# Altium footprint library Connectors.PcbLib: 86 footprints (part 2 of 6)
Each footprint in its own frame and in the unit in brackets; x right, y up, seen from the top. Pads: shape width x height; smd on the part's side, far side on the other; paste and mask are expansions set on the pad; w line width, h text height; cw(c..) or ccw(c..) is an arc to the next point about the centre after c.
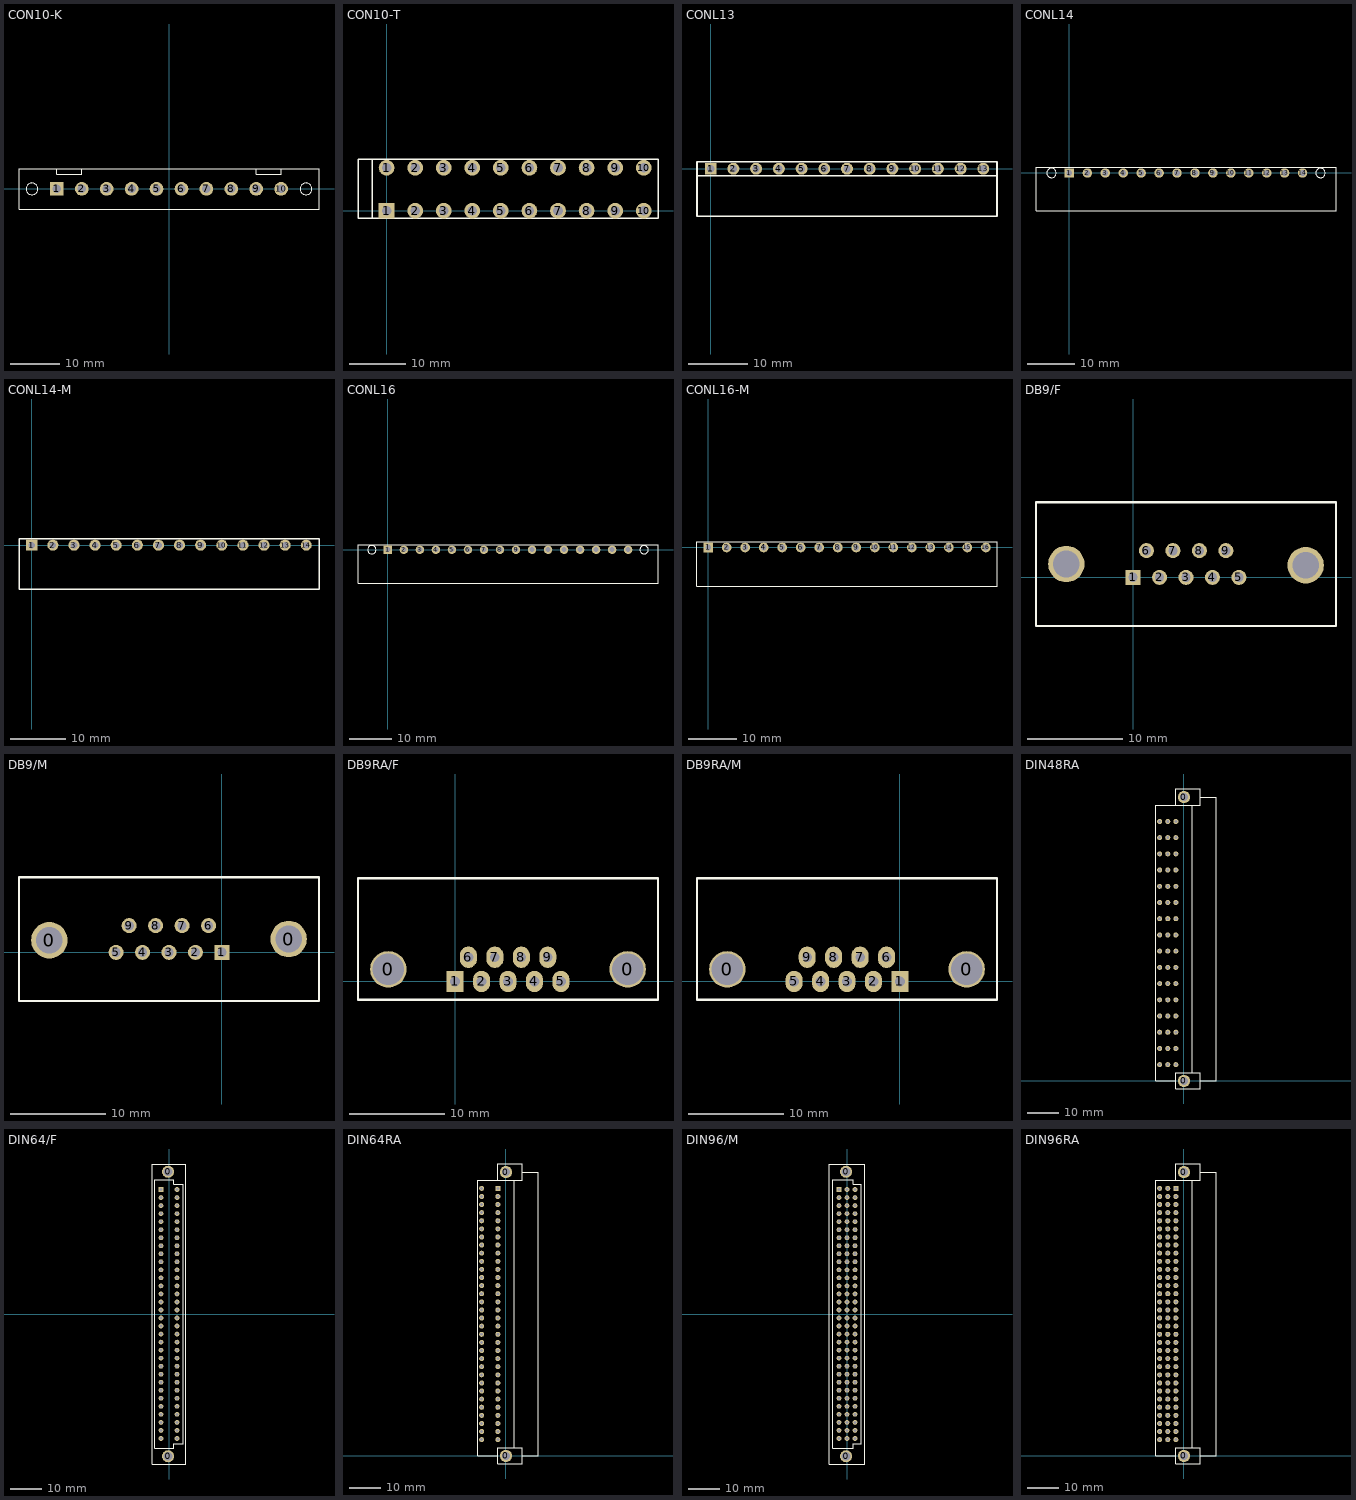
[diagram p1: the footprints below, top view; thin cyan lines are the x and y axes]

## CON10-K [mm] "connector ,2Pin,5.08mm"
pads (10):
  rect 2.8x2.8 hole 1.7: 1(-22.86,0)
  round 2.8 hole 1.7: 2(-17.78,0) 3(-12.7,0) 4(-7.62,0) 5(-2.54,0) 6(2.54,0) 7(7.62,0) 8(12.7,0) 9(17.78,0) 10(22.86,0)
Top Overlay:
  circle w0.254: c27.94,0 r1.2
  circle w0.254: c-27.94,0 r1.2
  lines w0.254: -22.86,4.1 -22.86,3 -17.78,3 -17.78,4.1 ; 17.78,4.1 17.78,3 22.86,3 22.86,4.1 ; -30.58,-4.15 30.58,-4.15 30.58,4.1 -30.58,4.1 -30.58,-4.15

## CON10-T [mm] "connector ,2Pin,5.08mm"
pads (20):
  rect 2.8x2.8 hole 1.7: 1(0,0)
  round 2.8 hole 1.7: 1(0,7.62) 2(5.08,0) 2(5.08,7.62) 3(10.16,0) 3(10.16,7.62) 4(15.24,0) 4(15.24,7.62) 5(20.32,0) 5(20.32,7.62) 6(25.4,0) 6(25.4,7.62) 7(30.48,0) 7(30.48,7.62) 8(35.56,0) 8(35.56,7.62) 9(40.64,0) 9(40.64,7.62) 10(45.72,0) 10(45.72,7.62)
Top Overlay:
  lines w0.254: -2.54,-1.38 -2.54,9.12 ; -5.08,-1.38 -5.08,9.12 48.26,9.12 48.26,-1.38 -5.08,-1.38

## CONL13 [mm] "connector ,8Pin,5.08mm"
pads (13):
  rect 2x2 hole 1.2: 1(0,0)
  round 2 hole 1.2: 2(3.81,0) 3(7.62,0) 4(11.43,0) 5(15.24,0) 6(19.05,0) 7(22.86,0) 8(26.67,0) 9(30.48,0) 10(34.29,0) 11(38.1,0) 12(41.91,0) 13(45.72,0)
Top Overlay:
  lines w0.254: -2.3,-1.2 48.02,-1.2 ; -2.3,-8 -2.3,1.2 48.02,1.2 48.02,-8 -2.3,-8

## CONL14 [mm] "connector ,14Pin,3.81mm"
pads (14):
  rect 2x2 hole 1.2: 1(0,0)
  round 2 hole 1.2: 2(3.81,0) 3(7.62,0) 4(11.43,0) 5(15.24,0) 6(19.05,0) 7(22.86,0) 8(26.67,0) 9(30.48,0) 10(34.29,0) 11(38.1,0) 12(41.91,0) 13(45.72,0) 14(49.53,0)
Top Overlay:
  circle w0.254: c53.34,0 r1
  circle w0.254: c-3.81,0 r1
  lines w0.254: -7.1,-8 56.63,-8 56.63,1.2 -7.1,1.2 -7.1,-8

## CONL14-M [mm] "connector ,14Pin,3.81mm"
pads (14):
  rect 2x2 hole 1.2: 1(0,0)
  round 2 hole 1.2: 2(3.81,0) 3(7.62,0) 4(11.43,0) 5(15.24,0) 6(19.05,0) 7(22.86,0) 8(26.67,0) 9(30.48,0) 10(34.29,0) 11(38.1,0) 12(41.91,0) 13(45.72,0) 14(49.53,0)
Top Overlay:
  lines w0.254: -2.3,-8 -2.3,1.2 51.83,1.2 51.83,-8 -2.3,-8

## CONL16 [mm] "connector ,16Pin,3.81mm"
pads (16):
  rect 2x2 hole 1.2: 1(0,0)
  round 2 hole 1.2: 2(3.81,0) 3(7.62,0) 4(11.43,0) 5(15.24,0) 6(19.05,0) 7(22.86,0) 8(26.67,0) 9(30.48,0) 10(34.29,0) 11(38.1,0) 12(41.91,0) 13(45.72,0) 14(49.53,0) 15(53.34,0) 16(57.15,0)
Top Overlay:
  circle w0.254: c-3.81,0 r1
  circle w0.254: c60.96,0 r1
  lines w0.254: -7.1,-8 -7.1,1.2 64.25,1.2 64.25,-8 -7.1,-8

## CONL16-M [mm] "connector ,16Pin,3.81mm"
pads (16):
  rect 2x2 hole 1.2: 1(0,0)
  round 2 hole 1.2: 2(3.81,0) 3(7.62,0) 4(11.43,0) 5(15.24,0) 6(19.05,0) 7(22.86,0) 8(26.67,0) 9(30.48,0) 10(34.29,0) 11(38.1,0) 12(41.91,0) 13(45.72,0) 14(49.53,0) 15(53.34,0) 16(57.15,0)
Top Overlay:
  lines w0.254: -2.3,-8 59.45,-8 59.45,1.2 -2.3,1.2 -2.3,-8

## DB9/F [mil]
pads (11):
  rect 62x62 hole 38: 1(0,0)
  round 62 hole 38: 2(109,0) 3(218,0) 4(327,0) 5(436,0) 6(55,110) 7(164,110) 8(273,110) 9(382,110)
  round 150 hole 110: ""(-275,55) ""(711,50)
Top Overlay:
  lines w8: -400,-200 836,-200 836,310
  lines w10: -400,-200 -400,310 836,310

## DB9/M [mil]
pads (11):
  round 150 hole 110: 0(-711,50) 0(275,55)
  rect 62x62 hole 38: 1(0,0)
  round 62 hole 38: 2(-109,0) 3(-218,0) 4(-327,0) 5(-436,0) 6(-55,110) 7(-164,110) 8(-273,110) 9(-382,110)
Top Overlay:
  lines w8: -836,310 -836,-200 400,-200
  lines w10: -836,310 400,310 400,-200

## DB9RA/F [mil] "DB9RA/M FEMALE"
pads (11):
  round 150 hole 130: 0(-275,50) 0(711,50)
  rect 70x88 hole 40: 1(0,0)
  oval 70x88 hole 40: 2(109,0) 3(218,0) 4(327,0) 5(436,0) 6(55,100) 7(164,100) 8(273,100) 9(382,100)
Top Overlay:
  lines w10: -400,-75 836,-75 836,425 -400,425 -400,-75

## DB9RA/M [mil] "DB9RA/M MALE"
pads (11):
  round 150 hole 130: 0(-711,49.72) 0(275,49.72)
  rect 70x88 hole 40: 1(0,-0.28)
  oval 70x88 hole 40: 2(-109,-0.28) 3(-218,-0.28) 4(-327,-0.28) 5(-436,-0.28) 6(-55,99.72) 7(-164,99.72) 8(-273,99.72) 9(-382,99.72)
Top Overlay:
  lines w10: -836,-75.28 400,-75.28 400,424.72 -836,424.72 -836,-75.28

## DIN48RA [mil]
pads (50):
  round 150 hole 100: 0(0,0) 0(0,3500)
  round 62 hole 36: 2B(-200,3200) 2D(-300,3200) 2Z(-100,3200) 4B(-200,3000) 4D(-300,3000) 4Z(-100,3000) 6B(-200,2800) 6D(-300,2800) 6Z(-100,2800) 8B(-200,2600) 8D(-300,2600) 8Z(-100,2600) 10B(-200,2400) 10D(-300,2400) 10Z(-100,2400) 12B(-200,2200) 12D(-300,2200) 12Z(-100,2200) 14B(-200,2000) 14D(-300,2000) 14Z(-100,2000) 16B(-200,1800) 16D(-300,1800) 16Z(-100,1800) 18B(-200,1600) 18D(-300,1600) 18Z(-100,1600) 20B(-200,1400) 20D(-300,1400) 20Z(-100,1400) 22B(-200,1200) 22D(-300,1200) 22Z(-100,1200) 24B(-200,1000) 24D(-300,1000) 24Z(-100,1000) 26B(-200,800) 26D(-300,800) 26Z(-100,800) 28B(-200,600) 28D(-300,600) 28Z(-100,600) 30B(-200,400) 30D(-300,400) 30Z(-100,400) 32B(-200,200) 32D(-300,200) 32Z(-100,200)
Top Overlay:
  lines w10: -100,0 -350,0 -350,3400 -100,3400 ; 100,100 100,3400 ; -100,3400 -100,3600 200,3600 200,3500 ; -100,3400 200,3400 200,3500 ; 200,0 200,100 -100,100 -100,-100 200,-100 200,0 ; 200,0 400,0 400,3500 200,3500

## DIN64/F [mm]
pads (66):
  round 3.81 hole 2.8: 0(-0.3,-45) 0(-0.3,45)
  rect 1.5x1.5 hole 1: 1A(-2.54,39.37)
  round 1.5 hole 1: 1C(2.54,39.37) 2A(-2.54,36.83) 2C(2.54,36.83) 3A(-2.54,34.29) 3C(2.54,34.29) 4A(-2.54,31.75) 4C(2.54,31.75) 5A(-2.54,29.21) 5C(2.54,29.21) 6A(-2.54,26.67) 6C(2.54,26.67) 7A(-2.54,24.13) 7C(2.54,24.13) 8A(-2.54,21.59) 8C(2.54,21.59) 9A(-2.54,19.05) 9C(2.54,19.05) 10A(-2.54,16.51) 10C(2.54,16.51) 11A(-2.54,13.97) 11C(2.54,13.97) 12A(-2.54,11.43) 12C(2.54,11.43) 13A(-2.54,8.89) 13C(2.54,8.89) 14A(-2.54,6.35) 14C(2.54,6.35) 15A(-2.54,3.81) 15C(2.54,3.81) 16A(-2.54,1.27) 16C(2.54,1.27) 17A(-2.54,-1.27) 17C(2.54,-1.27) 18A(-2.54,-3.81) 18C(2.54,-3.81) 19A(-2.54,-6.35) 19C(2.54,-6.35) 20A(-2.54,-8.89) 20C(2.54,-8.89) 21A(-2.54,-11.43) 21C(2.54,-11.43) 22A(-2.54,-13.97) 22C(2.54,-13.97) 23A(-2.54,-16.51) 23C(2.54,-16.51) 24A(-2.54,-19.05) 24C(2.54,-19.05) 25A(-2.54,-21.59) 25C(2.54,-21.59) 26A(-2.54,-24.13) 26C(2.54,-24.13) 27A(-2.54,-26.67) 27C(2.54,-26.67) 28A(-2.54,-29.21) 28C(2.54,-29.21) 29A(-2.54,-31.75) 29C(2.54,-31.75) 30A(-2.54,-34.29) 30C(2.54,-34.29) 31A(-2.54,-36.83) 31C(2.54,-36.83) 32A(-2.54,-39.37) 32C(2.54,-39.37)
Top Overlay:
  lines w0.254: -5.25,-47.45 5.25,-47.45 5.25,47.45 -5.25,47.45 -5.25,-47.45 ; -4.5,-42.5 -4.5,42.5 1.5,42.5 1.5,41 4.5,41 4.5,-41 1.5,-41 1.5,-42.5 -4.5,-42.5

## DIN64RA [mil]
pads (66):
  round 150 hole 100: 0(0,0) 0(0,3500)
  rect 62x62 hole 36: 1A(-100,3300)
  round 62 hole 36: 1C(-300,3300) 2A(-100,3200) 2C(-300,3200) 3A(-100,3100) 3C(-300,3100) 4A(-100,3000) 4C(-300,3000) 5A(-100,2900) 5C(-300,2900) 6A(-100,2800) 6C(-300,2800) 7A(-100,2700) 7C(-300,2700) 8A(-100,2600) 8C(-300,2600) 9A(-100,2500) 9C(-300,2500) 10A(-100,2400) 10C(-300,2400) 11A(-100,2300) 11C(-300,2300) 12A(-100,2200) 12C(-300,2200) 13A(-100,2100) 13C(-300,2100) 14A(-100,2000) 14C(-300,2000) 15A(-100,1900) 15C(-300,1900) 16A(-100,1800) 16C(-300,1800) 17A(-100,1700) 17C(-300,1700) 18A(-100,1600) 18C(-300,1600) 19A(-100,1500) 19C(-300,1500) 20A(-100,1400) 20C(-300,1400) 21A(-100,1300) 21C(-300,1300) 22A(-100,1200) 22C(-300,1200) 23A(-100,1100) 23C(-300,1100) 24A(-100,1000) 24C(-300,1000) 25A(-100,900) 25C(-300,900) 26A(-100,800) 26C(-300,800) 27A(-100,700) 27C(-300,700) 28A(-100,600) 28C(-300,600) 29A(-100,500) 29C(-300,500) 30A(-100,400) 30C(-300,400) 31A(-100,300) 31C(-300,300) 32A(-100,200) 32C(-300,200)
Top Overlay:
  lines w10: -100,0 -350,0 -350,3400 -100,3400 ; 100,100 100,3400 ; -100,3400 -100,3600 200,3600 200,3500 ; -100,3400 200,3400 200,3500 ; 200,0 200,100 -100,100 -100,-100 200,-100 200,0 ; 200,0 400,0 400,3500 200,3500

## DIN96/M [mm]
pads (98):
  round 3.81 hole 2.8: 0(-0.3,-45) 0(-0.3,45)
  rect 1.5x1.5 hole 1: 1A(-2.54,39.37)
  round 1.5 hole 1: 1B(0,39.37) 1C(2.54,39.37) 2A(-2.54,36.83) 2B(0,36.83) 2C(2.54,36.83) 3A(-2.54,34.29) 3B(0,34.29) 3C(2.54,34.29) 4A(-2.54,31.75) 4B(0,31.75) 4C(2.54,31.75) 5A(-2.54,29.21) 5B(0,29.21) 5C(2.54,29.21) 6A(-2.54,26.67) 6B(0,26.67) 6C(2.54,26.67) 7A(-2.54,24.13) 7B(0,24.13) 7C(2.54,24.13) 8A(-2.54,21.59) 8B(0,21.59) 8C(2.54,21.59) 9A(-2.54,19.05) 9B(0,19.05) 9C(2.54,19.05) 10A(-2.54,16.51) 10B(0,16.51) 10C(2.54,16.51) 11A(-2.54,13.97) 11B(0,13.97) 11C(2.54,13.97) 12A(-2.54,11.43) 12B(0,11.43) 12C(2.54,11.43) 13A(-2.54,8.89) 13B(0,8.89) 13C(2.54,8.89) 14A(-2.54,6.35) 14B(0,6.35) 14C(2.54,6.35) 15A(-2.54,3.81) 15B(0,3.81) 15C(2.54,3.81) 16A(-2.54,1.27) 16B(0,1.27) 16C(2.54,1.27) 17A(-2.54,-1.27) 17B(0,-1.27) 17C(2.54,-1.27) 18A(-2.54,-3.81) 18B(0,-3.81) 18C(2.54,-3.81) 19A(-2.54,-6.35) 19B(0,-6.35) 19C(2.54,-6.35) 20A(-2.54,-8.89) 20B(0,-8.89) 20C(2.54,-8.89) 21A(-2.54,-11.43) 21B(0,-11.43) 21C(2.54,-11.43) 22A(-2.54,-13.97) 22B(0,-13.97) 22C(2.54,-13.97) 23A(-2.54,-16.51) 23B(0,-16.51) 23C(2.54,-16.51) 24A(-2.54,-19.05) 24B(0,-19.05) 24C(2.54,-19.05) 25A(-2.54,-21.59) 25B(0,-21.59) 25C(2.54,-21.59) 26A(-2.54,-24.13) 26B(0,-24.13) 26C(2.54,-24.13) 27A(-2.54,-26.67) 27B(0,-26.67) 27C(2.54,-26.67) 28A(-2.54,-29.21) 28B(0,-29.21) 28C(2.54,-29.21) 29A(-2.54,-31.75) 29B(0,-31.75) 29C(2.54,-31.75) 30A(-2.54,-34.29) 30B(0,-34.29) 30C(2.54,-34.29) 31A(-2.54,-36.83) 31B(0,-36.83) 31C(2.54,-36.83) 32A(-2.54,-39.37) 32B(0,-39.37) 32C(2.54,-39.37)
Top Overlay:
  lines w0.254: -5.55,-47.45 5.55,-47.45 5.55,47.45 -5.55,47.45 -5.55,-47.45 ; -4.5,-42.5 -4.5,42.5 2,42.5 2,41 4.5,41 4.5,-41 2,-41 2,-42.5 -4.5,-42.5

## DIN96RA [mil]
pads (98):
  round 150 hole 100: 0(0,0) 0(0,3500)
  rect 62x62 hole 36: 1A(-100,3300)
  round 62 hole 36: 1B(-200,3300) 1C(-300,3300) 2A(-100,3200) 2B(-200,3200) 2C(-300,3200) 3A(-100,3100) 3B(-200,3100) 3C(-300,3100) 4A(-100,3000) 4B(-200,3000) 4C(-300,3000) 5A(-100,2900) 5B(-200,2900) 5C(-300,2900) 6A(-100,2800) 6B(-200,2800) 6C(-300,2800) 7A(-100,2700) 7B(-200,2700) 7C(-300,2700) 8A(-100,2600) 8B(-200,2600) 8C(-300,2600) 9A(-100,2500) 9B(-200,2500) 9C(-300,2500) 10A(-100,2400) 10B(-200,2400) 10C(-300,2400) 11A(-100,2300) 11B(-200,2300) 11C(-300,2300) 12A(-100,2200) 12B(-200,2200) 12C(-300,2200) 13A(-100,2100) 13B(-200,2100) 13C(-300,2100) 14A(-100,2000) 14B(-200,2000) 14C(-300,2000) 15A(-100,1900) 15B(-200,1900) 15C(-300,1900) 16A(-100,1800) 16B(-200,1800) 16C(-300,1800) 17A(-100,1700) 17B(-200,1700) 17C(-300,1700) 18A(-100,1600) 18B(-200,1600) 18C(-300,1600) 19A(-100,1500) 19B(-200,1500) 19C(-300,1500) 20A(-100,1400) 20B(-200,1400) 20C(-300,1400) 21A(-100,1300) 21B(-200,1300) 21C(-300,1300) 22A(-100,1200) 22B(-200,1200) 22C(-300,1200) 23A(-100,1100) 23B(-200,1100) 23C(-300,1100) 24A(-100,1000) 24B(-200,1000) 24C(-300,1000) 25A(-100,900) 25B(-200,900) 25C(-300,900) 26A(-100,800) 26B(-200,800) 26C(-300,800) 27A(-100,700) 27B(-200,700) 27C(-300,700) 28A(-100,600) 28B(-200,600) 28C(-300,600) 29A(-100,500) 29B(-200,500) 29C(-300,500) 30A(-100,400) 30B(-200,400) 30C(-300,400) 31A(-100,300) 31B(-200,300) 31C(-300,300) 32A(-100,200) 32B(-200,200) 32C(-300,200)
Top Overlay:
  lines w10: -100,0 -350,0 -350,3400 -100,3400 ; 100,100 100,3400 ; -100,3400 -100,3600 200,3600 200,3500 ; -100,3400 200,3400 200,3500 ; 200,0 200,100 -100,100 -100,-100 200,-100 200,0 ; 200,0 400,0 400,3500 200,3500